# EAGLE library part TPS61232 (library marius)
TPS6123x High Efficiency Synchronous Step Up Converters with 5-A Switches
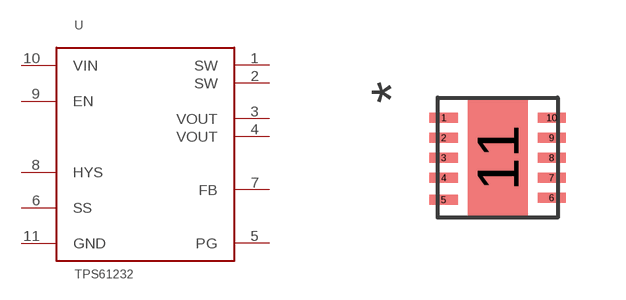
[diagram p21: symbol with the pads of VSON10; footprint VSON10]

Designator prefix U

## TPS61232  [VSON10]
1  SW
2  SW
3  VOUT
4  VOUT
5  PG
6  SS
7  FB
8  HYS
9  EN
10  VIN
11  GND

## Footprint VSON10 (pad centres in mm)
smd 0.7 x 0.25: 1 -1.35,1; 2 -1.35,0.5; 3 -1.35,0; 4 -1.35,-0.5; 5 -1.35,-1.05; 6 1.35,-1; 7 1.35,-0.5; 8 1.35,0; 9 1.35,0.5; 10 1.35,1
smd 1.5 x 3: 11 0,0